# EAGLE library part LMC7660 (library ruark2)
Charge Pump Switching Regulator IC Negative Fixed -Vin 1 Output 8-SOIC (0.154", 3.90mm Width)
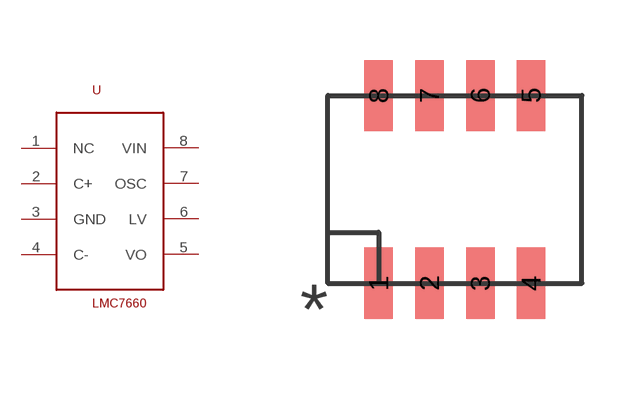
[diagram p13: symbol with the pads of SOP8; footprint SOP8]

Designator prefix U

## LMC7660 (PARTNO: LMC7660IMX/NOPBCT-ND)  [SOP8]
1  NC
2  C+
3  GND
4  C-
5  VO
6  LV
7  OSC
8  VIN

## Footprint SOP8 (pad centres in mm)
smd 0.711 x 1.778: 1 0,0; 2 1.27,0; 3 2.54,0; 4 3.81,0; 5 3.81,4.699; 6 2.54,4.699; 7 1.27,4.699; 8 0,4.699